# Altium schematic symbol library S_EVQ-P7J01P_SPST.Schlib: 1 symbol
Pins are listed as number, name and electrical type; pins without a type are passive.

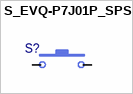
[diagram p0: symbol S_EVQ-P7J01P_SPST]

## S_EVQ-P7J01P_SPST
designator S?  (value not drawn)
pins: 1, 2